# Altium footprint library rest.PCBLIB: 42 footprints (part 1 of 3)
Each footprint in its own frame and in the unit in brackets; x right, y up, seen from the top. Pads: shape width x height; smd on the part's side, far side on the other; paste and mask are expansions set on the pad; w line width, h text height; cw(c..) or ccw(c..) is an arc to the next point about the centre after c.
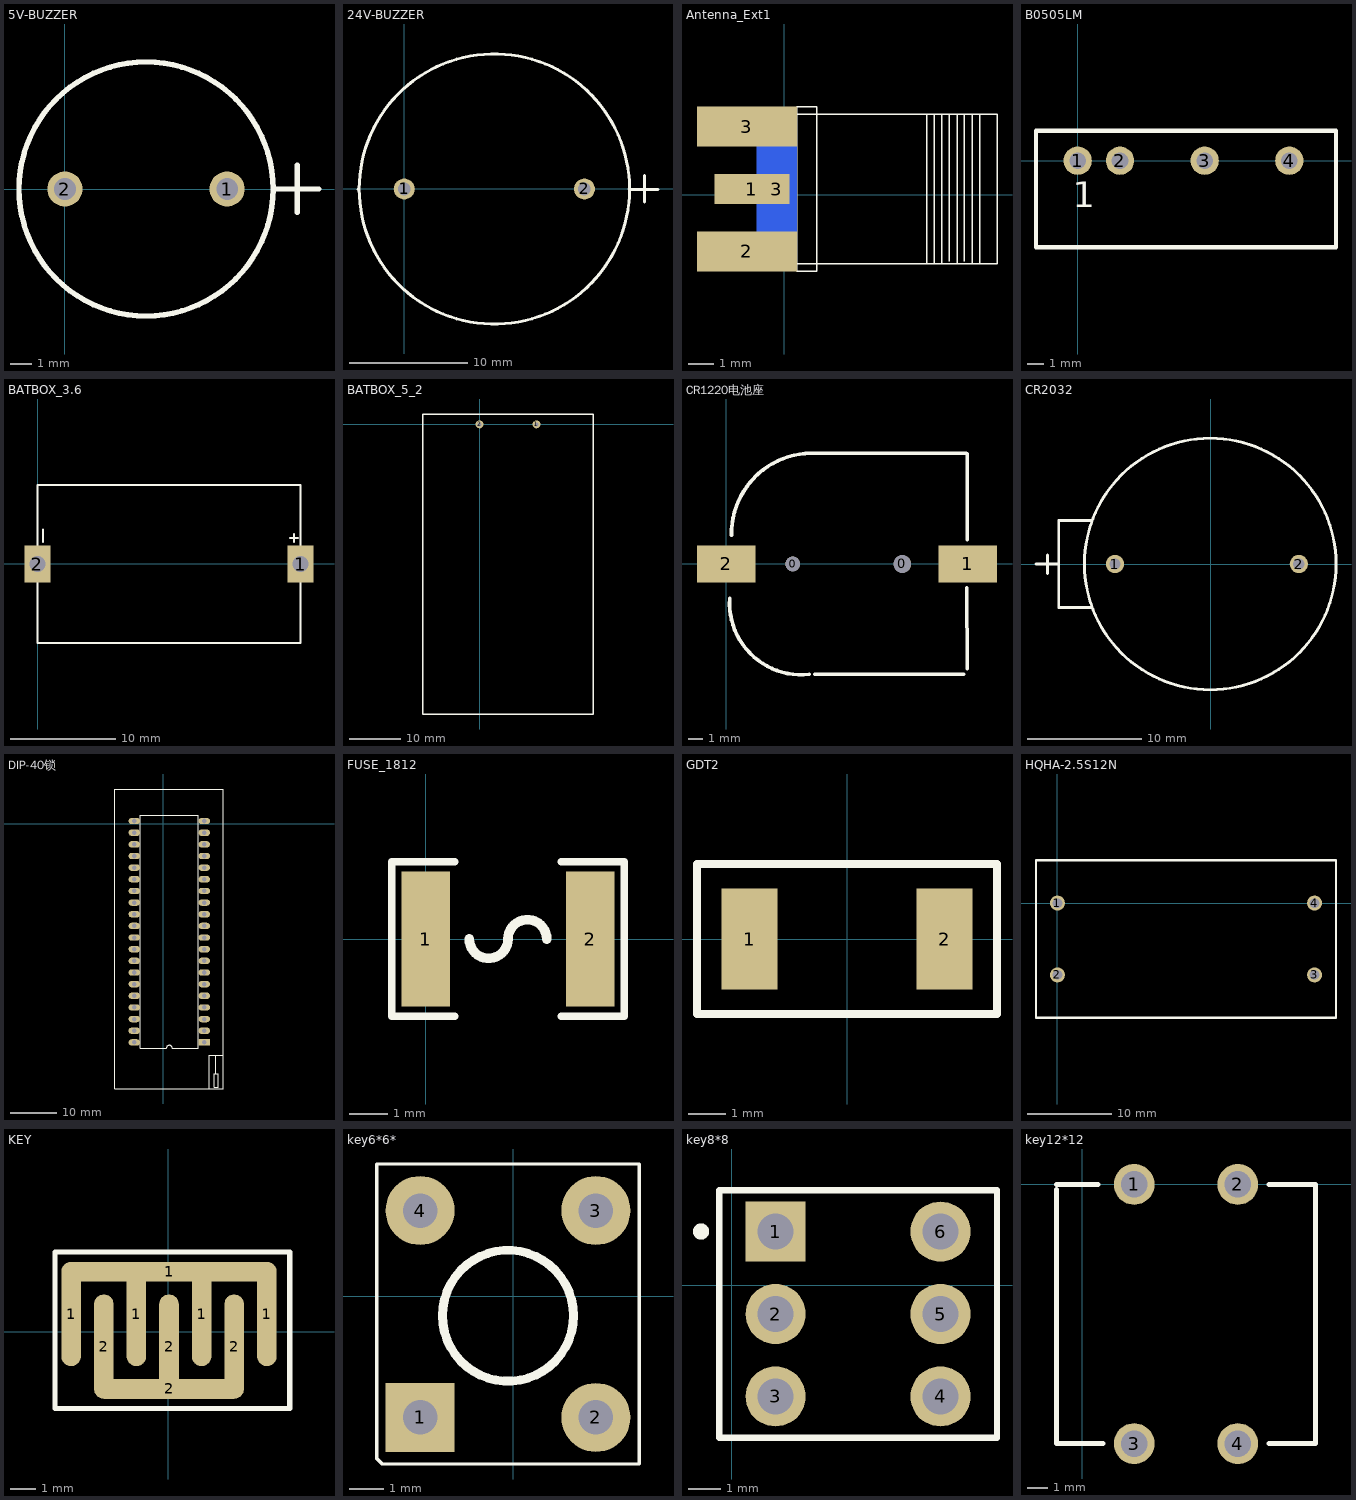
[diagram p0: the footprints below, top view; thin cyan lines are the x and y axes]

## 5V-BUZZER [mil]
pads (2):
  round 65 hole 40: 1(300,0) 2(0,0)
TopOverlay:
  circle w10: c150,0 r235
  lines w10: 385,0 470,0 ; 430,-43 430,44

## 24V-BUZZER [mil]
pads (2):
  round 70 hole 42: 1(0,0) 2(600,0)
TopOverlay:
  circle w10: c300,0 r450
  lines w10: -154,-1 -151,2 ; 749,0 750,-1 845,-1 ; 800,-43 800,45

## Antenna_Ext1 [mm]
pads (4):
  rect 3x1.2 smd: 1(-1.295,0.229)
  rect 4x1.6 all layers, no hole: 2(-1.495,-2.271) 3(-1.495,2.729)
  rect 1.6x4 smd far side: 3(-0.295,0.229)
TopOverlay:
  lines w0.051: 0.505,-2.771 8.505,-2.771 8.505,3.229 0.505,3.229 1.005,3.229 ; 5.705,-2.771 5.705,3.229 ; 6.005,-2.771 6.005,3.229 ; 6.305,-2.771 6.305,3.229 ; 6.605,-2.671 6.605,3.229 ; 6.905,-2.771 6.905,3.229 ; 7.205,-2.671 7.205,3.229 ; 7.505,-2.771 7.505,3.229 ; 7.805,-2.771 7.805,3.229 ; 0.505,-3.071 0.505,3.529 1.305,3.529 1.305,-3.071 0.505,-3.071

## B0505LM [mm]
pads (4):
  round 1.7 hole 1: 1(0,0) 2(2.54,0) 3(7.62,0) 4(12.7,0)
TopOverlay:
  lines w0.254: -2.5,-5.2 15.5,-5.2 15.5,1.8 -2.5,1.8 -2.5,-5.2
  text "1" at -0.3,-2.8 h1.52

## BATBOX_3.6 [mm]
pads (2):
  rect 2.5x3.5 hole 1.5: 1(24.975,-0.025) 2(-0.025,-0.025)
TopOverlay:
  lines w0.203: -0.025,-7.525 -0.025,-0.025 -0.025,7.475 ; -0.019,-7.525 24.975,-7.525 24.975,-0.025 24.975,7.475 -0.019,7.475 ; 0.508,2.083 0.508,3.226 ; 23.978,2.438 24.74,2.438 ; 24.359,2.057 24.359,2.819

## BATBOX_5_2 [mil] "两节5号电池插座"
pads (2):
  round 60 hole 30: 1(433.07,0) 2(0,0)
TopOverlay:
  lines w10: -433.07,-2204.72 866.14,-2204.72 866.14,78.74 -433.07,78.74 -433.07,-2204.72

## CR1220电池座 [mm]
pads (4):
  round 1 hole 1: 0(4.547,0)
  round 1.2 hole 1.2: 0(12.04,0)
  rect 4x2.5 smd: 1(16.5,0) 2(0,0)
TopOverlay:
  lines w0.254: 0.229,-2.362 ccw(c5.134,-2.657) 5.666,-7.542 ; 0.356,1.981 cw(c5.867,2.057) 5.791,7.569 16.408,7.569 16.459,7.518 16.459,1.676 ; 6.045,-7.544 16.214,-7.544 ; 16.434,-1.626 16.459,-7.137

## CR2032 [mm]
pads (2):
  round 1.6 hole 1: 1(-8.382,0) 2(7.7,0)
TopOverlay:
  circle w0.254: c-0.05,0 r11
  lines w0.254: -15.291,0 -13.3,0 ; -14.3,-0.838 -14.3,0.787 ; -10.5,-3.8 -13.3,-3.8 -13.3,3.8 -10.5,3.8

## DIP-40锁 [mm]
pads (40):
  rect 2.5x1.38 hole 1: 1(8.89,-47.65)
  oval 2.5x1.38 hole 1: 2(8.89,-45.11) 3(8.89,-42.57) 4(8.89,-40.03) 5(8.89,-37.49) 6(8.89,-34.95) 7(8.89,-32.41) 8(8.89,-29.87) 9(8.89,-27.33) 10(8.89,-24.79) 11(8.89,-22.25) 12(8.89,-19.71) 13(8.89,-17.17) 14(8.89,-14.63) 15(8.89,-12.09) 16(8.89,-9.55) 17(8.89,-7.01) 18(8.89,-4.47) 19(8.89,-1.93) 20(8.89,0.61) 21(-6.35,0.61) 22(-6.35,-1.93) 23(-6.35,-4.47) 24(-6.35,-7.01) 25(-6.35,-9.55) 26(-6.35,-12.09) 27(-6.35,-14.63) 28(-6.35,-17.17) 29(-6.35,-19.71) 30(-6.35,-22.25) 31(-6.35,-24.79) 32(-6.35,-27.33) 33(-6.35,-29.87) 34(-6.35,-32.41) 35(-6.35,-34.95) 36(-6.35,-37.49) 37(-6.35,-40.03) 38(-6.35,-42.57) 39(-6.35,-45.11) 40(-6.35,-47.65)
TopOverlay:
  lines w0.254: 10.033,-57.81 10.033,-52.603 10.033,-50.444 12.954,-50.444 ; 10.16,7.595 13.081,7.595 13.081,-48.412 ; 10.287,7.595 -10.668,7.595 -10.668,-47.65 -10.668,-57.81 13.081,-57.81 13.081,-47.65 ; 11.049,-54.635 11.049,-54.508 ; 11.43,-54.508 11.43,-50.444 ; 11.049,-54.508 11.938,-54.508 11.938,-57.429 11.049,-57.429 11.049,-54.508 ; -5.08,-48.92 0.635,-48.92 cw(c1.27,-48.92) 1.905,-48.92 7.62,-48.92 7.62,1.88 -5.08,1.88 -5.08,-48.92

## FUSE_1812 [mil]
height 62.99
pads (2):
  rect 50x140 smd: 1(0,0) 2(170,0)
TopOverlay:
  lines w7.87: 30,-80 -35,-80 -35,80 30,80 ; 140,-80 205,-80 205,80 140,80
  lines w10: 45,0 ccw(c65,0) 85,0 cw(c105,0) 125,0

## GDT2 [mm]
pads (2):
  rect 1.5x2.7 smd: 1(-2.6,0) 2(2.6,0)
TopOverlay:
  lines w0.203: -4,-2 -4,2 4,2 4,-2 -4,-2

## HQHA-2.5S12N [mil]
pads (4):
  round 70 hole 45: 1(0,0) 2(0,-335) 3(1200,-335) 4(1200,0)
TopOverlay:
  lines w10: -100,-535 -100,200 1300,200 1300,-535 -100,-535

## KEY [mil]
pads (9):
  oval 30x160 smd: 1(-148.82,27.56) 1(-48.82,27.56) 1(51.18,27.56) 1(151.18,27.56) 2(-98.82,-22.44) 2(1.18,-22.44) 2(101.18,-22.44)
  oval 330x30 smd: 1(1.18,92.56)
  oval 230x30 smd: 2(1.18,-87.44)
TopOverlay:
  lines w8: -173.82,-117.44 -173.82,122.56 186.18,122.56 186.18,-117.44 -173.82,-117.44

## key6*6* [mm]
pads (4):
  rect 2x2 hole 1: 1(-2.702,-3.515)
  round 2 hole 1: 2(2.398,-3.515) 3(2.398,2.485) 4(-2.702,2.485)
TopOverlay:
  circle w0.254: c-0.152,-0.565 r1.9
  lines w0.1: -3.952,-4.715 -3.952,3.835 3.648,3.835 3.648,-4.865 2.698,-4.865 -0.252,-4.865 -2.552,-4.865 -3.352,-4.865 -3.802,-4.865 -3.952,-4.715

## key8*8 [mm]
pads (6):
  rect 1.85x1.85 hole 1.1: 1(1.346,1.651)
  round 1.85 hole 1.1: 2(1.346,-0.889) 3(1.346,-3.429) 4(6.426,-3.429) 5(6.426,-0.889) 6(6.426,1.651)
TopOverlay:
  circle w0.25: c-0.95,1.652 r0.125
  lines w0.2: -0.394,-4.699 -0.394,2.921 8.166,2.921 8.166,-4.699 -0.394,-4.699

## key12*12 [mm]
pads (4):
  round 2 hole 1.3: 1(2.54,0) 2(7.62,0) 3(2.54,-12.7) 4(7.62,-12.7)
TopOverlay:
  lines w0.254: -1.27,-0.254 -1.27,-12.7 1.016,-12.7 ; -1.27,0 0.762,0 ; 9.144,-12.7 11.43,-12.7 11.43,0 9.144,0